# EAGLE library part TEXAS_INSTRUMENTS-EFUSE-LM5066I (library Module_Regulators)
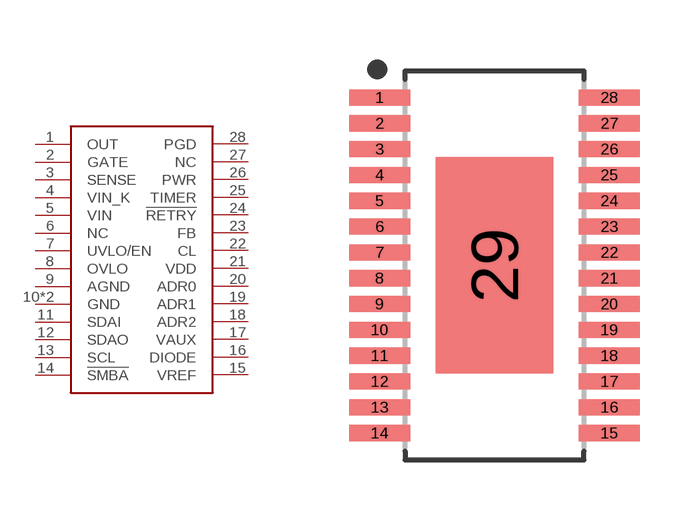
[diagram p39: symbol with the pads of TEXAS_INSTRUMENTS-EFUSE-LM5066I; footprint TEXAS_INSTRUMENTS-EFUSE-LM5066I]

Designator prefix U

## TEXAS_INSTRUMENTS-EFUSE-LM5066I  [TEXAS_INSTRUMENTS-EFUSE-LM5066I]
1  OUT
2  GATE
3  SENSE
4  VIN_K
5  VIN
6  NC
7  UVLO/EN
8  OVLO
9  AGND
10  GND
11  SDAI
12  SDAO
13  SCL
14  !SMBA
15  VREF
16  DIODE
17  VAUX
18  ADR2
19  ADR1
20  ADR0
21  VDD
22  CL
23  FB
24  !RETRY
25  TIMER
26  PWR
27  NC
28  PGD
29  GND

## Footprint TEXAS_INSTRUMENTS-EFUSE-LM5066I (pad centres in mm)
28-SOP, 0.65 mm pitch, 6.40 mm span, 9.70 X 4.40 X 1.10 mm body, 5.45 X 2.95 mm thermal pad 28-pin SOP package with 0.65 mm pitch, 6.40 mm span with body size 9.70 X 4.40 X 1.10 mm and thermal pad size 5.45 X 2.95 mm
smd 1.536 x 0.407: 1 -2.889,4.225; 2 -2.889,3.575; 3 -2.889,2.925; 4 -2.889,2.275; 5 -2.889,1.625; 6 -2.889,0.975; 7 -2.889,0.325; 8 -2.889,-0.325; 9 -2.889,-0.975; 10 -2.889,-1.625; 11 -2.889,-2.275; 12 -2.889,-2.925; 13 -2.889,-3.575; 14 -2.889,-4.225; 15 2.889,-4.225; 16 2.889,-3.575; 17 2.889,-2.925; 18 2.889,-2.275; 19 2.889,-1.625; 20 2.889,-0.975; 21 2.889,-0.325; 22 2.889,0.325; 23 2.889,0.975; 24 2.889,1.625; 25 2.889,2.275; 26 2.889,2.925; 27 2.889,3.575; 28 2.889,4.225
smd 2.95 x 5.45: 29 0,0